# Altium footprint library KN2CLib.PcbLib: 180 footprints (part 4 of 12)
Each footprint in its own frame and in the unit in brackets; x right, y up, seen from the top. Pads: shape width x height; smd on the part's side, far side on the other; paste and mask are expansions set on the pad; w line width, h text height; cw(c..) or ccw(c..) is an arc to the next point about the centre after c.
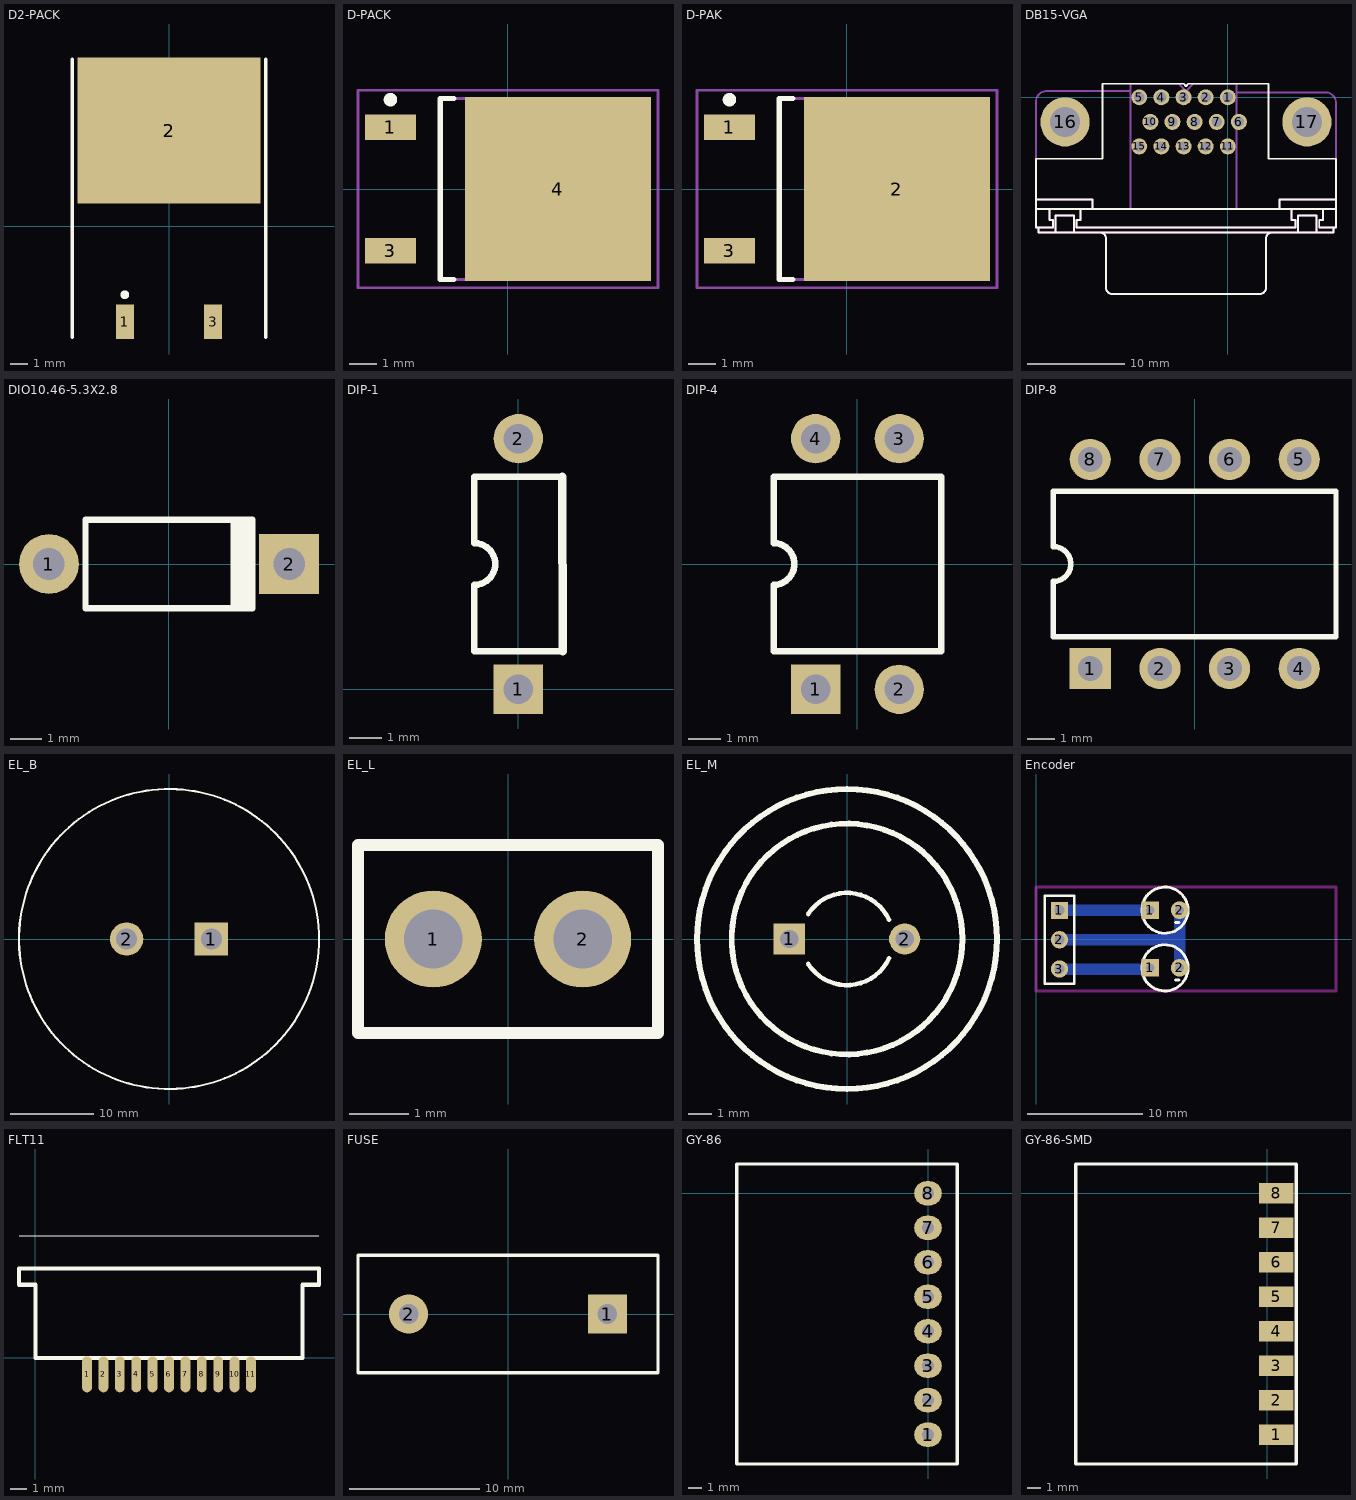
[diagram p3: the footprints below, top view; thin cyan lines are the x and y axes]

## D2-PACK [mm] "D2-PAK/TO-263-AB; 3 Leads (1 Cropped); Body 15.5 (inc. leads) x 10.5 mm (LxW max)"
height 4.69
pads (3):
  rect 1.05x2 smd: 1(-2.54,-5.5) 3(2.54,-5.5)
  rect 10.55x8.4 smd: 2(0,5.5)
Top Overlay:
  circle w0.25: c-2.54,-3.95 r0.125
  lines w0.2: -5.575,-6.4 -5.575,9.6 ; 5.575,-6.4 5.575,9.6
3D body: height 2.38, standoff 0, extent -5.675,-2.2 5.7,9.75

## D-PACK [mm] "D-PAK, 3-Pads, Body 6.2x6.7mm (max), IPC Medium Density"
height 2.38
pads (3):
  rect 1.9x0.95 smd: 1(-4.35,2.28) 3(-4.35,-2.28)
  rect 6.9x6.8 smd: 4(1.85,0)
Top Overlay:
  circle w0.25: c-4.35,3.305 r0.125
  lines w0.2: -2,-3.35 -2.5,-3.35 -2.5,3.35 -2,3.35
Mechanical 13:
  lines w0.1: -2.5,-3.35 -2.5,3.35 3.7,3.35 3.7,-3.35 -2.5,-3.35
Mechanical 15:
  lines w0.1: -0.5,0 0.5,0 ; 0,-0.5 0,0.5 ; -5.55,-3.65 -5.55,3.65 5.55,3.65 5.55,-3.65 -5.55,-3.65
3D body: height 2.38, standoff 0, extent -2.5,-3.35 3.7,3.35

## D-PAK [mm] "D-PAK, 3-Pads, Body 6.2x6.7mm (max), IPC Medium Density"
height 2.38
pads (3):
  rect 1.9x0.95 smd: 1(-4.35,2.28) 3(-4.35,-2.28)
  rect 6.9x6.8 smd: 2(1.85,0)
Top Overlay:
  circle w0.25: c-4.35,3.305 r0.125
  lines w0.2: -2,-3.35 -2.5,-3.35 -2.5,3.35 -2,3.35
Mechanical 13:
  lines w0.1: -2.5,-3.35 -2.5,3.35 3.7,3.35 3.7,-3.35 -2.5,-3.35
Mechanical 15:
  lines w0.1: -0.5,0 0.5,0 ; 0,-0.5 0,0.5 ; -5.55,-3.65 -5.55,3.65 5.55,3.65 5.55,-3.65 -5.55,-3.65
3D body: height 2.38, standoff 0, extent -2.5,-3.35 3.7,3.35

## DB15-VGA [mil]
pads (17):
  round 65 hole 42: 1(0,0) 2(-90,0) 3(-180,0) 4(-270,0) 5(-360,0) 6(45,-100) 7(-45,-100) 8(-135,-100) 9(-225,-100) 10(-315,-100) 11(0,-200) 12(-90,-200) 13(-180,-200) 14(-270,-200) 15(-360,-200)
  round 200 hole 122: 16(-662,-100) 17(322,-100)
Top Overlay:
  lines w8: -780,-455 440,-455 ; -780,-415 -550,-415 -550,-455 ; -775,-530 -710,-530 -710,-500 -725,-500 -725,-455 ; -700,-550 -700,-480 -625,-480 -625,-550 ; -600,-455 -600,-500 -615,-500 -615,-530 275,-530 275,-500 260,-500 260,-460 ; 180,-550 -515,-550 ; 210,-455 210,-415 440,-415 ; 285,-550 285,-480 360,-480 360,-550 ; 387,-455 387,-500 372,-500 372,-530 437,-530 ; -515,-550 cw(c-522.5,-577.5) -495,-570 -495,-780 ccw(c-467.5,-772.5) -475,-800 135,-800 ccw(c127.5,-772.5) 155,-780 155,-570 cw(c182.5,-577.5) 175,-550 430,-550 430,-530 440,-530 440,-250 165,-250 165,55 -160,55 -170,45 -180,55 -510,55 -510,-250 -780,-250 -780,-530 -770,-530 -770,-550 -515,-550
Mechanical 1:
  circle w8: c322,-103 r62.65
  circle w8: c-662,-103 r62.65
  circle w8: c-662,-103 r92.27
  circle w8: c323,-103 r92.27
  lines w8: -780,-455 440,-455 ; -780,-415 -550,-415 -550,-455 ; -775,-530 -710,-530 -710,-500 -725,-500 -725,-455 ; -700,-550 -700,-480 -625,-480 -625,-550 ; -600,-455 -600,-500 -615,-500 -615,-530 275,-530 275,-500 260,-500 260,-460 ; -395,-455 -395,40 ; 35,-455 35,40 ; 180,-550 -515,-550 ; 210,-455 210,-415 440,-415 ; 285,-550 285,-480 360,-480 360,-550 ; 387,-455 387,-500 372,-500 372,-530 437,-530 ; -515,-550 cw(c-522.5,-577.5) -495,-570 -495,-780 ccw(c-467.5,-772.5) -475,-800 135,-800 ccw(c127.5,-772.5) 155,-780 155,-570 cw(c182.5,-577.5) 175,-550 430,-550 430,-530 440,-530 440,-20 ccw(c397.5,-22.5) 400,20 35,20 35,55 -140,55 -170,25 -200,55 -395,55 -395,25 -740,25 ccw(c-737.5,-17.5) -780,-15 -780,-530 -770,-530 -770,-550 -515,-550
Mechanical 15:
  circle w2: c323,-103 r92.27
  circle w2: c-662,-103 r92.27
  circle w2: c-662,-103 r62.65
  circle w2: c322,-103 r62.65
  lines w2: -780,-455 440,-455 ; -780,-415 -550,-415 -550,-455 ; -775,-530 -710,-530 -710,-500 -725,-500 -725,-455 ; -700,-550 -700,-480 -625,-480 -625,-550 ; -600,-455 -600,-500 -615,-500 -615,-530 275,-530 275,-500 260,-500 260,-460 ; -395,-455 -395,40 ; 35,-455 35,40 ; 180,-550 -515,-550 ; 210,-455 210,-415 440,-415 ; 285,-550 285,-480 360,-480 360,-550 ; 387,-455 387,-500 372,-500 372,-530 437,-530 ; -515,-550 cw(c-522.5,-577.5) -495,-570 -495,-780 ccw(c-467.5,-772.5) -475,-800 135,-800 ccw(c127.5,-772.5) 155,-780 155,-570 cw(c182.5,-577.5) 175,-550 430,-550 430,-530 440,-530 440,-20 ccw(c397.5,-22.5) 400,20 35,20 35,55 -140,55 -170,25 -200,55 -395,55 -395,25 -740,25 ccw(c-737.5,-17.5) -780,-15 -780,-530 -770,-530 -770,-550 -515,-550
  text ".Designator" at -637,-334 h39.37

## DIO10.46-5.3X2.8 [mm]
pads (2):
  round 1.9 hole 1: 1(-3.81,0)
  rect 1.9x1.9 hole 1: 2(3.81,0)
Top Overlay:
  rectangle: 1.95,-1.4 2.75,1.4
  lines w0.2: 2.65,-1.4 -2.65,-1.4 -2.65,1.4 2.65,1.4
3D body: height 3.3, standoff 0, extent -2.75,-1.5 2.75,1.5

## DIP-1 [mm] "DIP; 8 Leads; Row Spacing 7.62 mm; Pitch 2.54 mm"
height 5.08
pads (2):
  rect 1.5x1.5 hole 0.9: 1(0,0)
  round 1.5 hole 0.9: 2(0,7.62)
Top Overlay:
  lines w0.2: 1.333,6.46 -1.34,6.46 -1.34,4.445 cw(c-1.34,3.81) -1.34,3.175 -1.34,1.16 1.344,1.16
  lines w0.254: 1.333,6.46 1.344,1.16
3D body: height 6.8, standoff 0, extent -1.425,1.05 1.475,6.575

## DIP-4 [mm] "DIP; 4 Leads; Row Spacing 7.62 mm; Pitch 2.54 mm"
height 5.6
pads (4):
  rect 1.5x1.5 hole 0.9: 1(-1.27,-3.81)
  round 1.5 hole 0.9: 2(1.27,-3.81) 3(1.27,3.81) 4(-1.27,3.81)
Top Overlay:
  lines w0.2: -2.55,-2.65 -2.55,-0.635 ccw(c-2.55,0) -2.55,0.635 -2.55,2.65 2.55,2.65 2.55,-2.65 -2.55,-2.65
3D body: height 6.8, standoff 0, extent -2.65,-2.75 2.675,2.75

## DIP-8 [mm] "DIP; 8 Leads; Row Spacing 7.62 mm; Pitch 2.54 mm"
height 5.08
pads (8):
  rect 1.5x1.5 hole 0.9: 1(-3.81,-3.81)
  round 1.5 hole 0.9: 2(-1.27,-3.81) 3(1.27,-3.81) 4(3.81,-3.81) 5(3.81,3.81) 6(1.27,3.81) 7(-1.27,3.81) 8(-3.81,3.81)
Top Overlay:
  lines w0.2: -5.15,-2.65 -5.15,-0.635 ccw(c-5.15,0) -5.15,0.635 -5.15,2.65 5.15,2.65 5.15,-2.65 -5.15,-2.65
3D body: height 6.8, standoff 0, extent -5.275,-2.75 5.225,2.775

## EL_B [mm]
pads (2):
  rect 4x4 hole 2.5: 1(5.08,0)
  round 4 hole 2.5: 2(-5.08,0)
Top Overlay:
  circle w0.254: c0,0 r18
3D body: height 15, standoff 0, extent -17.975,-18.025 17.975,17.9

## EL_L [mm]
pads (2):
  round 1.65 hole 1: 1(-1.27,0) 2(1.27,0)
Top Overlay:
  lines w0.2: -2.55,-1.6 -2.55,1.6 2.55,1.6 2.55,-1.6 -2.55,-1.6
3D body: height 4.5, standoff 0, extent -2.625,-1.7 2.65,1.675

## EL_M [mm]
pads (2):
  rect 1.35x1.35 hole 0.8: 1(-2.5,0)
  round 1.35 hole 0.8: 2(2.5,0)
Top Overlay:
  circle w0.254: c0,0 r6.5
  circle w0.254: c0,0 r5
  lines w0.2: -1.687,-1.075 ccw(c0,0) 1.819,-0.832 ; -1.687,1.075 cw(c0,0) 1.819,0.832
3D body: height 21, standoff 0, extent -6.475,-6.5 6.5,6.5
3D body: height 17, standoff 0, extent -1.925,-2 1.975,2.025
3D body: height 16, standoff 0, extent -5,-5 5,4.975

## Encoder [mil]
pads (7):
  rect 59.06x59.06 hole 35.43: 1(80,97.48)
  rect 60x60 hole 30: 1(390,-98.43) 1(390,98.43)
  round 59.06 hole 35.43: 2(80,-2.52) 3(80,-102.52)
  round 60 hole 30: 2(490,-98.43) 2(490,98.43)
Bottom Layer:
  lines w39.37: 80,-102.52 385.91,-102.52 390,-98.43 ; 80,-2.52 490,-2.52 ; 80,97.48 80.94,98.43 390,98.43 ; 490,-98.43 490,-2.52 ; 490,98.43 490,-2.52
Top Overlay:
  circle w10: c440,98.43 r78.74
  circle w10: c440,-98.43 r78.74
  lines w7.87: 30,-152.52 30,147.48 130,147.48 130,-152.52 30,-152.52
  lines w10: 475.3,-140.53 487.7,-140.53 ; 475.3,56.33 487.7,56.33
Keep-Out Layer:
  lines w10: 0,-177.17 1023.62,-177.17 1023.62,177.17 0,177.17 0,-177.17

## FLT11 [mm]
pads (11):
  oval 0.6x2.2 smd: 1(3.15,-1) 2(4.15,-1) 3(5.15,-1) 4(6.15,-1) 5(7.15,-1) 6(8.15,-1) 7(9.15,-1) 8(10.15,-1) 9(11.15,-1) 10(12.15,-1) 11(13.15,-1)
Top Overlay:
  lines w0.01: -1,7.461 17.3,7.461
  lines w0.254: -1,4.461 0,4.461 0,0 16.3,0 16.3,4.461 17.3,4.461 17.3,5.461 -1,5.461 -1,4.461
3D body: height 3, standoff 0, extent -1,0 17.3,5.5

## FUSE [mm]
pads (2):
  rect 3x3 hole 1.5: 1(7.62,0)
  round 3 hole 1.5: 2(-7.62,0)
Top Overlay:
  lines w0.254: -11.5,-4.5 11.5,-4.5 11.5,4.5 -11.5,4.5 -11.5,-4.5
3D body: height 4, standoff 0, extent -11.6,-4.65 11.625,4.625

## GY-86 [mil]
pads (8):
  oval 80x70 hole 35.43: 1(0,-700) 2(0,-600) 3(0,-500) 4(0,-400) 5(0,-300) 6(0,-200) 7(0,-100) 8(0,0)
Top Overlay:
  lines w10: 85,83.07 85,-785 -555,-785 -555,85 85,85

## GY-86-SMD [mm]
pads (8):
  rect 2.54x1.524 smd: 1(0.675,-17.78) 2(0.675,-15.24) 3(0.675,-12.7) 4(0.675,-10.16) 5(0.675,-7.62) 6(0.675,-5.08) 7(0.675,-2.54) 8(0.675,0)
Top Overlay:
  lines w0.254: 2.159,2.11 2.159,-19.939 -14.097,-19.939 -14.097,2.159 2.159,2.159